# EAGLE library part MCP3422 (library 000001)
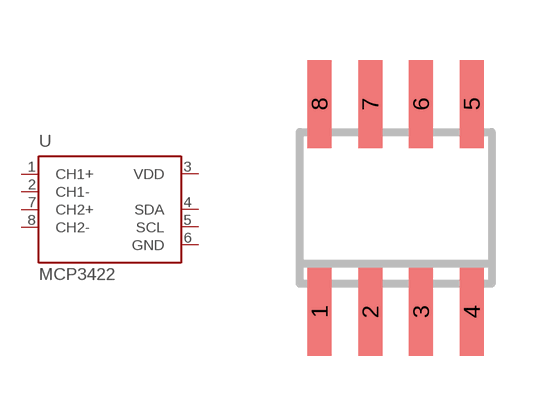
[diagram p90: symbol with the pads of SO-08; footprint SO-08]

Designator prefix -

## MCP3422SN  [SO-08]
1  CH1+  pwr
2  CH1-  in
3  VDD  in
4  SDA  in
5  SCL  hiz
6  GND  pwr
7  CH2+  in
8  CH2-  in

## Footprint SO-08 (pad centres in mm)
Small Outline Narrow Plastic Gull Wing 150-mil body, package type SN
smd 0.6 x 2.2: 1 -1.905,-2.6; 2 -0.635,-2.6; 3 0.635,-2.6; 4 1.905,-2.6; 5 1.905,2.6; 6 0.635,2.6; 7 -0.635,2.6; 8 -1.905,2.6